# EAGLE library part 621X2421821 (library Board-to-Board (rev18a))
WR-PHD 2.00mm Dual SMT Socket Header Low Profile, 24 Pins=>Code : Con_BTB_SHD_2.00_2_621x2421821(Packaging:x = 0: Tube x = 3: Tape & Reel with Cap) <http://katalog.we-online.de/media/thumbs2/eican/thb_Con_BTB_SHD_2.00_2_6210xx21821_pf2.jpg> 6210xx21821 Details see: http://katalog.we-online.de/en/em/PHD_2_0_SMT_DUAL_SOCKET_HEADER_LOW_PROFILE_6210XX21821 6213xx21821 Details see: http://katalog.we-online.de/en/em/PHD_2_0_SMT_DUAL_SOCKET_HEADER_LOW_PROFILE_REEL_6213XX21821 2014 (C) Würth Elektronik
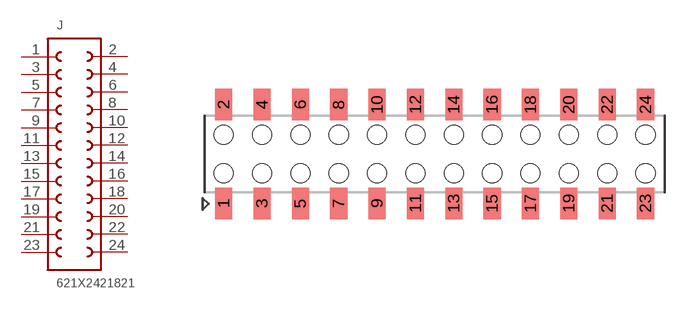
[diagram p270: symbol with the pads of 621X2421821; footprint 621X2421821]

Designator prefix J

## 621X2421821  [621X2421821]
1  1  pas
2  24  pas
3  2  pas
4  23  pas
5  3  pas
6  22  pas
7  4  pas
8  21  pas
9  5  pas
10  20  pas
11  6  pas
12  19  pas
13  7  pas
14  18  pas
15  8  pas
16  17  pas
17  9  pas
18  16  pas
19  10  pas
20  15  pas
21  11  pas
22  14  pas
23  12  pas
24  13  pas

## Footprint 621X2421821 (pad centres in mm)
WR-PHD 2.00mm Dual SMT Socket Header Low Profile, 24 Pins
smd 0.89 x 1.65: 1 -11,-2.575; 2 -11,2.575; 3 -9,-2.575; 4 -9,2.575; 5 -7,-2.575; 6 -7,2.575; 7 -5,-2.575; 8 -5,2.575; 9 -3,-2.575; 10 -3,2.575; 11 -1,-2.575; 12 -1,2.575; 13 1,-2.575; 14 1,2.575; 15 3,-2.575; 16 3,2.575; 17 5,-2.575; 18 5,2.575; 19 7,-2.575; 20 7,2.575; 21 9,-2.575; 22 9,2.575; 23 11,-2.575; 24 11,2.575
hole 1 at -11,1
hole 1 at -11,-1
hole 1 at -9,1
hole 1 at -9,-1
hole 1 at -7,-1
hole 1 at -7,1
hole 1 at -5,1
hole 1 at -5,-1
hole 1 at -3,1
hole 1 at -3,-1
hole 1 at -1,1
hole 1 at 1,1
hole 1 at 1,-1
hole 1 at -1,-1
hole 1 at 3,1
hole 1 at 3,-1
hole 1 at 5,1
hole 1 at 7,1
hole 1 at 7,-1
hole 1 at 5,-1
hole 1 at 9,-1
hole 1 at 11,-1
hole 1 at 11,1
hole 1 at 9,1